# EAGLE library part KM48C8100 (library Custom)
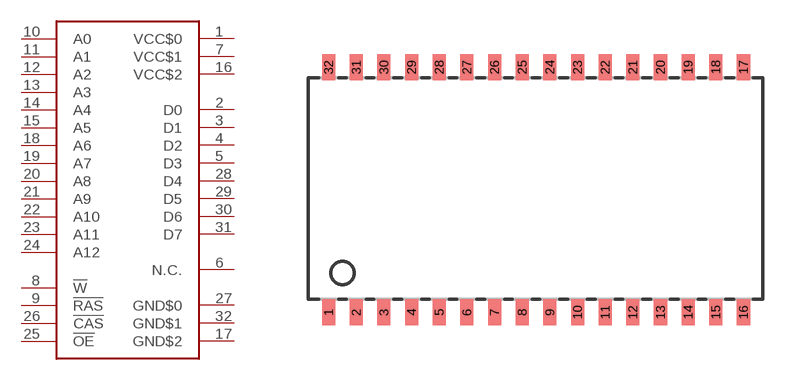
[diagram p20: symbol with the pads of TSOPII-32; footprint TSOPII-32]

Designator prefix -

## KM48C8100  [TSOPII-32]
1  VCC$0  pwr
2  D0
3  D1
4  D2
5  D3
6  N.C.
7  VCC$1  pwr
8  !W  in
9  !RAS  in
10  A0  in
11  A1  in
12  A2  in
13  A3  in
14  A4  in
15  A5  in
16  VCC$2  pwr
17  GND$2  pwr
18  A6  in
19  A7  in
20  A8  in
21  A9  in
22  A10  in
23  A11  in
24  A12  in
25  !OE  in
26  !CAS  in
27  GND$0  pwr
28  D4
29  D5
30  D6
31  D7
32  GND$1  pwr

## Footprint TSOPII-32 (pad centres in mm)
32-pin TSOP II (51-85095) Source: Cypress CYP05780611.pdf
smd 0.6 x 1.2: 1 -9.525,-5.627; 2 -8.255,-5.627; 3 -6.985,-5.627; 4 -5.715,-5.627; 5 -4.445,-5.627; 6 -3.175,-5.627; 7 -1.905,-5.627; 8 -0.635,-5.627; 9 0.635,-5.627; 10 1.905,-5.627; 11 3.175,-5.627; 12 4.445,-5.627; 13 5.715,-5.627; 14 6.985,-5.627; 15 8.255,-5.627; 16 9.525,-5.627; 17 9.525,5.629; 18 8.255,5.629; 19 6.985,5.629; 20 5.715,5.629; 21 4.445,5.629; 22 3.175,5.629; 23 1.905,5.629; 24 0.635,5.629; 25 -0.635,5.629; 26 -1.905,5.629; 27 -3.175,5.629; 28 -4.445,5.629; 29 -5.715,5.629; 30 -6.985,5.629; 31 -8.255,5.629; 32 -9.525,5.629